# EAGLE library part DG403 (library EurorackModularParts)
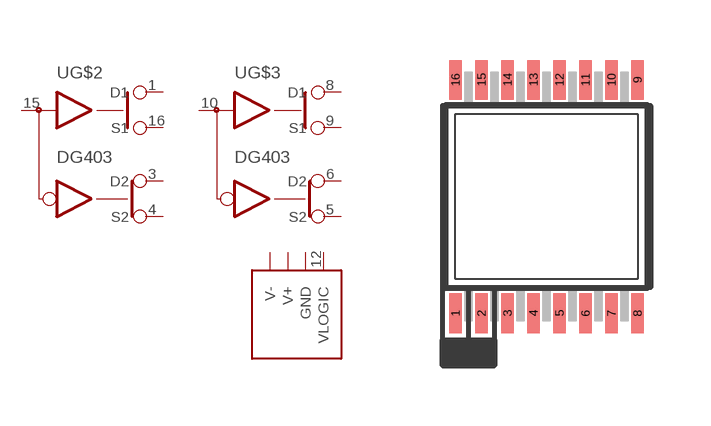
[diagram p21: symbol with the pads of TSSOP16; footprint TSSOP16]

Designator prefix -; gates G$1=PWR+-GSS G$2=SWDPST G$3=SWDPST

## DG403DVZ  [TSSOP16]
1  G$2:D1
3  G$2:D2
4  G$2:S2
5  G$3:S2
6  G$3:D2
8  G$3:D1
9  G$3:S1
10  G$3:IN  in
11  G$1:V+  pwr
12  G$1:VLOGIC
13  G$1:GND  pwr
14  G$1:V-  pwr
15  G$2:IN  in
16  G$2:S1

## Footprint TSSOP16 (pad centres in mm)
smd 0.305 x 0.991: 1 -2.275,-2.918; 2 -1.625,-2.918; 3 -0.975,-2.918; 4 -0.325,-2.918; 5 0.325,-2.918; 6 0.975,-2.918; 7 1.625,-2.918; 8 2.275,-2.918; 9 2.275,2.918; 10 1.625,2.918; 11 0.975,2.918; 12 0.325,2.918; 13 -0.325,2.918; 14 -0.975,2.918; 15 -1.625,2.918; 16 -2.275,2.918